# EAGLE library part MT6-7 (library con-amp-mt)
AMP MT6 CONNECTOR
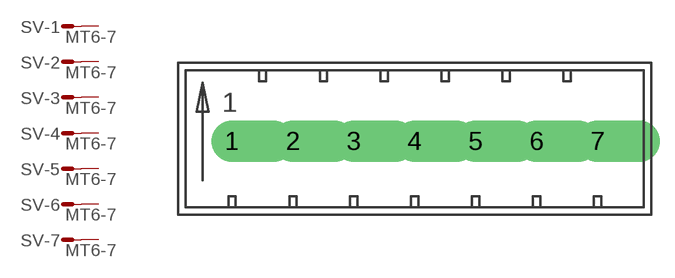
[diagram p31: symbol with the pads of MT6-7; footprint MT6-7]

Designator prefix SV; gates -1=MA -2=MA -3=MA -4=MA -5=MA -6=MA -7=MA

## MT6-7  [MT6-7]
1  -1:S  pas
2  -2:S  pas
3  -3:S  pas
4  -4:S  pas
5  -5:S  pas
6  -6:S  pas
7  -7:S  pas

## Footprint MT6-7 (pad centres in mm)
AMP MT6 CONNECTOR
drill 1.803 offset: 1 -11.887,0; 2 -7.925,0; 3 -3.962,0; 4 0,0; 5 3.962,0; 6 7.925,0; 7 11.887,0